# EAGLE library part CONN_BMR480_BRICK (library X16_Power_Slab)
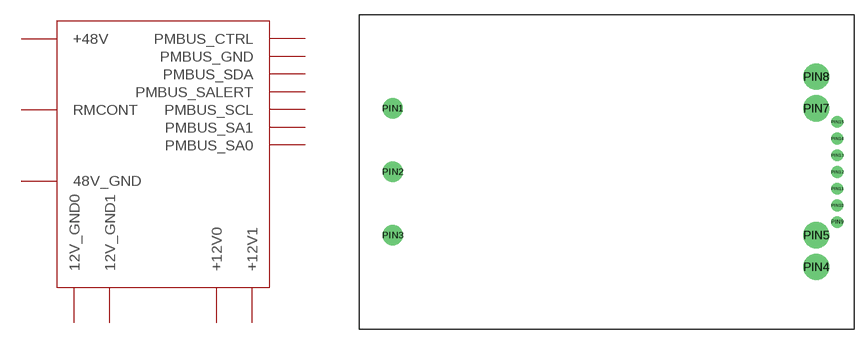
[diagram p0: symbol with the pads of CONN_BMR480_BRICK; footprint CONN_BMR480_BRICK]

Designator prefix -

## CONN_BMR480_BRICK  [CONN_BMR480_BRICK]
PIN1  +48V
PIN2  RMCONT
PIN3  48V_GND
PIN4  12V_GND1
PIN5  12V_GND0
PIN7  +12V1
PIN8  +12V0
PIN9  PMBUS_CTRL
PIN10  PMBUS_GND
PIN11  PMBUS_SDA
PIN12  PMBUS_SALERT
PIN13  PMBUS_SCL
PIN14  PMBUS_SA1
PIN15  PMBUS_SA0

## Footprint CONN_BMR480_BRICK (pad centres in mm)
drill 1.6: PIN1 4.06,26.52; PIN2 4.06,18.9; PIN3 4.06,11.28
drill 2.108: PIN4 54.86,7.47; PIN5 54.86,11.28; PIN7 54.86,26.52; PIN8 54.86,30.33
drill 0.9: PIN9 57.4,12.855; PIN10 57.4,14.861; PIN11 57.4,16.868; PIN12 57.4,18.875; PIN13 57.4,20.881; PIN14 57.4,22.888; PIN15 57.4,24.894